# EAGLE library part INA818ID (library NIPCB)
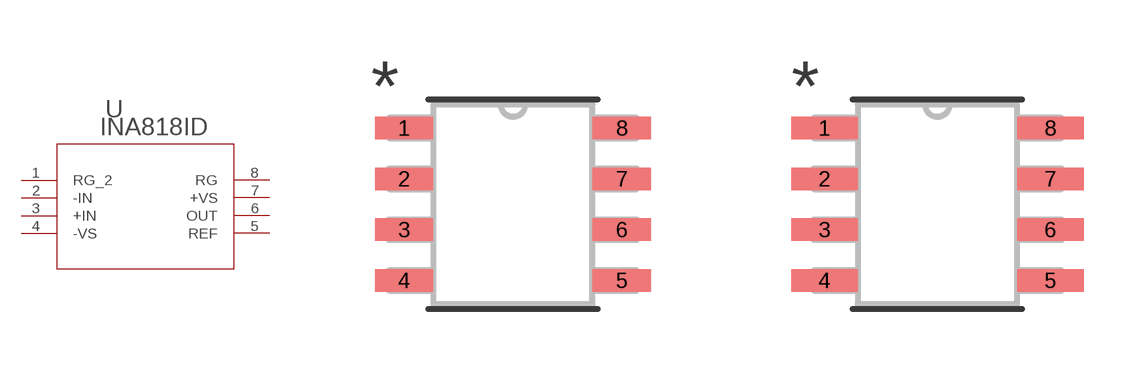
[diagram p0: symbol with the pads of SOIC-8_TEX; footprints SOIC-8_TEX, SOIC-8_TEX-M]

Designator prefix U

## INA818IDSOIC-8_TEX (COPYRIGHT: Copyright (C) 2024 Ultra Librarian. All rights reserved.; MANUFACTURER_PART_NUMBER: INA818ID; MFR_NAME: Texas Instruments)  [SOIC-8_TEX]
1  RG_2  pas
2  -IN  in
3  +IN  in
4  -VS  pas
5  REF  in
6  OUT  out
7  +VS  pas
8  RG  pas

## INA818IDSOIC-8_TEX-M (COPYRIGHT: Copyright (C) 2024 Ultra Librarian. All rights reserved.; MANUFACTURER_PART_NUMBER: INA818ID; MFR_NAME: Texas Instruments)  [SOIC-8_TEX-M]
Pads as for SOIC-8_TEX

## INA818IDSOIC-8_TEX-L (COPYRIGHT: Copyright (C) 2024 Ultra Librarian. All rights reserved.; MANUFACTURER_PART_NUMBER: INA818ID; MFR_NAME: Texas Instruments)  [SOIC-8_TEX-L]
Pads as for SOIC-8_TEX

## Footprint SOIC-8_TEX (pad centres in mm)
smd 1.46 x 0.559: 1 -2.724,1.905; 2 -2.724,0.635; 3 -2.724,-0.635; 4 -2.724,-1.905; 5 2.724,-1.905; 6 2.724,-0.635; 7 2.724,0.635; 8 2.724,1.905

## Footprint SOIC-8_TEX-M (pad centres in mm)
smd 1.664 x 0.559: 1 -2.826,1.905; 2 -2.826,0.635; 3 -2.826,-0.635; 4 -2.826,-1.905; 5 2.826,-1.905; 6 2.826,-0.635; 7 2.826,0.635; 8 2.826,1.905

## Footprint SOIC-8_TEX-L (pad centres in mm)
smd 1.257 x 0.508: 1 -2.623,1.905; 2 -2.623,0.635; 3 -2.623,-0.635; 4 -2.623,-1.905; 5 2.623,-1.905; 6 2.623,-0.635; 7 2.623,0.635; 8 2.623,1.905